# Altium footprint library WCAP-FTX2.PcbLib: 37 footprints (part 3 of 3)
Each footprint in its own frame and in the unit in brackets; x right, y up, seen from the top. Pads: shape width x height; smd on the part's side, far side on the other; paste and mask are expansions set on the pad; w line width, h text height; cw(c..) or ccw(c..) is an arc to the next point about the centre after c.
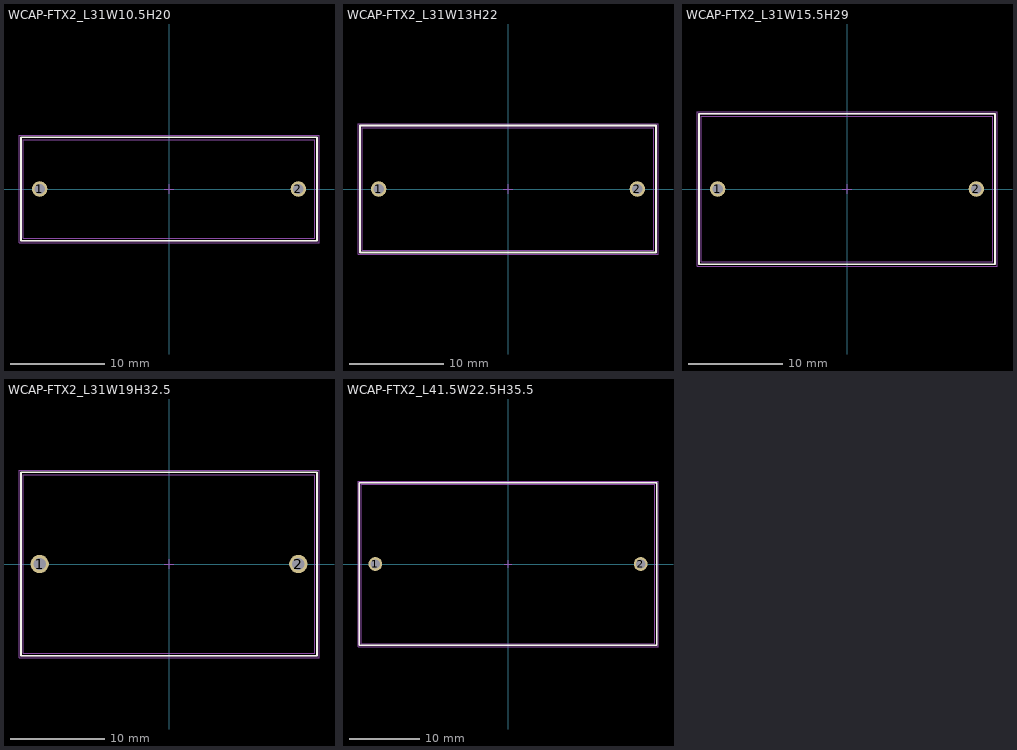
[diagram p2: the footprints below, top view; thin cyan lines are the x and y axes]

## WCAP-FTX2_L31W10.5H20 [mm] "Film Capacitors, 31x10.5x20mm"
height 20
pads (2):
  round 1.65 hole 1.1: 1(-13.75,0) 2(13.75,0)
Top Overlay:
  lines w0.2: -15.75,-5.5 -15.75,5.5 15.75,5.5 15.75,-5.5 -15.75,-5.5
Top Assembly:
  lines w0.1: -15.75,-5.5 15.75,-5.5 15.75,5.5 -15.75,5.5 -15.75,-5.5
Top Designator:
  text ".Designator" at -3.647,-0.357 h1
Top 3D Body:
  lines w0.1: -15.5,-5.25 15.5,-5.25 15.5,5.25 -15.5,5.25 -15.5,-5.25
Top Courtyard:
  lines w0.05: -15.95,-5.7 -15.95,5.7 15.95,5.7 15.95,-5.7 -15.95,-5.7
Top Component Center:
  lines w0.1: -0.5,0 0.5,0 ; 0,-0.5 0,0.5
3D body "27,5x31x10,5x20.stp": height 20.2, standoff -3.8, extent -15.5,-5.25 15.5,5.25

## WCAP-FTX2_L31W13H22 [mm] "Film Capacitors, 31x13x22mm"
height 22
pads (2):
  round 1.65 hole 1.1: 1(-13.75,0) 2(13.75,0)
Top Overlay:
  lines w0.2: -15.75,-6.75 15.75,-6.75 15.75,6.75 -15.75,6.75 -15.75,-6.75
Top Assembly:
  lines w0.1: -15.75,-6.75 15.75,-6.75 15.75,6.75 -15.75,6.75 -15.75,-6.75
Top Designator:
  text ".Designator" at -3.647,-0.357 h1
Top 3D Body:
  lines w0.1: -15.5,-6.5 -15.5,6.5 15.5,6.5 15.5,-6.5 -15.5,-6.5
Top Courtyard:
  lines w0.05: -15.95,-6.95 15.95,-6.95 15.95,6.95 -15.95,6.95 -15.95,-6.95
Top Component Center:
  lines w0.1: -0.5,0 0.5,0 ; 0,-0.5 0,0.5
3D body "27,5x31x13x22.stp": height 22.2, standoff -3.8, extent -15.5,-6.5 15.5,6.5

## WCAP-FTX2_L31W15.5H29 [mm] "Film Capacitors, 31x15.5x29mm"
height 29
pads (2):
  round 1.65 hole 1.1: 1(-13.75,0) 2(13.75,0)
Top Overlay:
  lines w0.2: -15.75,-8 15.75,-8 15.75,8 -15.75,8 -15.75,-8
Top Assembly:
  lines w0.1: -15.75,-8 -15.75,8 15.75,8 15.75,-8 -15.75,-8
Top Designator:
  text ".Designator" at -3.647,-0.357 h1
Top 3D Body:
  lines w0.1: -15.5,-7.75 -15.5,7.75 15.5,7.75 15.5,-7.75 -15.5,-7.75
Top Courtyard:
  lines w0.05: -15.95,-8.2 15.95,-8.2 15.95,8.2 -15.95,8.2 -15.95,-8.2
Top Component Center:
  lines w0.1: -0.5,0 0.5,0 ; 0,-0.5 0,0.5
3D body "27,5x31x15,5x29.stp": height 29.2, standoff -3.8, extent -15.5,-7.75 15.5,7.75

## WCAP-FTX2_L31W19H32.5 [mm] "Film Capacitors, 31x19x32.5mm"
height 32.5
pads (2):
  round 1.95 hole 1.3: 1(-13.75,0) 2(13.75,0)
Top Overlay:
  lines w0.2: -15.75,-9.75 -15.75,9.75 15.75,9.75 15.75,-9.75 -15.75,-9.75
Top Assembly:
  lines w0.1: -15.75,-9.75 15.75,-9.75 15.75,9.75 -15.75,9.75 -15.75,-9.75
Top Designator:
  text ".Designator" at -3.647,-0.357 h1
Top 3D Body:
  lines w0.1: -15.5,-9.5 -15.5,9.5 15.5,9.5 15.5,-9.5 -15.5,-9.5
Top Courtyard:
  lines w0.05: -15.95,-9.95 -15.95,9.95 15.95,9.95 15.95,-9.95 -15.95,-9.95
Top Component Center:
  lines w0.1: -0.5,0 0.5,0 ; 0,-0.5 0,0.5
3D body "27,5x31x19x32,5.stp": height 32.7, standoff -3.8, extent -15.5,-9.5 15.5,9.5

## WCAP-FTX2_L41.5W22.5H35.5 [mm] "Film Capacitors, 41.5x22.5x35.5mm"
height 35.5
pads (2):
  round 1.95 hole 1.3: 1(-18.75,0) 2(18.75,0)
Top Overlay:
  lines w0.2: -21,-11.5 -21,11.5 21,11.5 21,-11.5 -21,-11.5
Top Assembly:
  lines w0.1: -21,-11.5 21,-11.5 21,11.5 -21,11.5 -21,-11.5
Top Designator:
  text ".Designator" at -3.647,-0.357 h1
Top 3D Body:
  lines w0.1: -20.75,-11.25 20.75,-11.25 20.75,11.25 -20.75,11.25 -20.75,-11.25
Top Courtyard:
  lines w0.05: -21.2,-11.7 -21.2,11.7 21.2,11.7 21.2,-11.7 -21.2,-11.7
Top Component Center:
  lines w0.1: -0.5,0 0.5,0 ; 0,-0.5 0,0.5
3D body "37,5x41,5x22,5x35,5.stp": height 35.7, standoff -3.8, extent -20.75,-11.25 20.75,11.25